# EAGLE library part HOLYIOT-18010-NRF52840 (library rpi-zero)
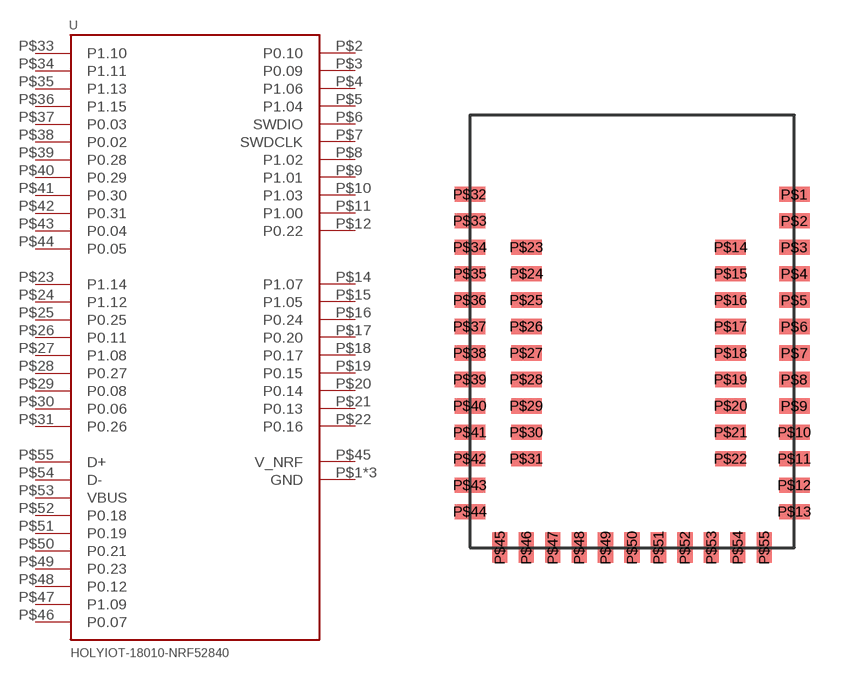
[diagram p1: symbol with the pads of HOLYIOT-18010-NRF52840; footprint HOLYIOT-18010-NRF52840]

Designator prefix -

## HOLYIOT-18010-NRF52840  [HOLYIOT-18010-NRF52840]
P$1  GND  pwr
P$2  P0.10
P$3  P0.09
P$4  P1.06
P$5  P1.04
P$6  SWDIO
P$7  SWDCLK
P$8  P1.02
P$9  P1.01
P$10  P1.03
P$11  P1.00
P$12  P0.22
P$13  GND  pwr
P$14  P1.07
P$15  P1.05
P$16  P0.24
P$17  P0.20
P$18  P0.17
P$19  P0.15
P$20  P0.14
P$21  P0.13
P$22  P0.16
P$23  P1.14
P$24  P1.12
P$25  P0.25
P$26  P0.11
P$27  P1.08
P$28  P0.27
P$29  P0.08
P$30  P0.06
P$31  P0.26
P$32  GND  pwr
P$33  P1.10
P$34  P1.11
P$35  P1.13
P$36  P1.15
P$37  P0.03
P$38  P0.02
P$39  P0.28
P$40  P0.29
P$41  P0.30
P$42  P0.31
P$43  P0.04
P$44  P0.05
P$45  V_NRF  pwr
P$46  P0.07
P$47  P1.09
P$48  P0.12
P$49  P0.23
P$50  P0.21
P$51  P0.19
P$52  P0.18
P$53  VBUS
P$54  D-
P$55  D+

## Footprint HOLYIOT-18010-NRF52840 (pad centres in mm)
smd 1.27 x 0.635: P$1 13.5,14.7; P$2 13.5,13.6; P$3 13.5,12.5; P$4 13.5,11.4; P$5 13.5,10.3; P$6 13.5,9.2; P$7 13.5,8.1; P$8 13.5,7; P$9 13.5,5.9; P$10 13.5,4.8; P$11 13.5,3.7; P$12 13.5,2.6; P$13 13.5,1.5; P$14 10.85,12.5; P$15 10.85,11.4; P$16 10.85,10.3; P$17 10.85,9.2; P$18 10.85,8.1; P$19 10.85,7; P$20 10.85,5.9; P$21 10.85,4.8; P$22 10.85,3.7; P$23 2.35,12.5; P$24 2.35,11.4; P$25 2.35,10.3; P$26 2.35,9.2; P$27 2.35,8.1; P$28 2.35,7; P$29 2.35,5.9; P$30 2.35,4.8; P$31 2.35,3.7; P$32 0,14.7; P$33 0,13.6; P$34 0,12.5; P$35 0,11.4; P$36 0,10.3; P$37 0,9.2; P$38 0,8.1; P$39 0,7; P$40 0,5.9; P$41 0,4.8; P$42 0,3.7; P$43 0,2.6; P$44 0,1.5
smd 0.635 x 1.27: P$45 1.25,0; P$46 2.35,0; P$47 3.45,0; P$48 4.55,0; P$49 5.65,0; P$50 6.75,0; P$51 7.85,0; P$52 8.95,0; P$53 10.05,0; P$54 11.15,0; P$55 12.25,0